# Altium footprint library FullyDigital.PcbLib: 50 footprints (part 4 of 4)
Each footprint in its own frame and in the unit in brackets; x right, y up, seen from the top. Pads: shape width x height; smd on the part's side, far side on the other; paste and mask are expansions set on the pad; w line width, h text height; cw(c..) or ccw(c..) is an arc to the next point about the centre after c.
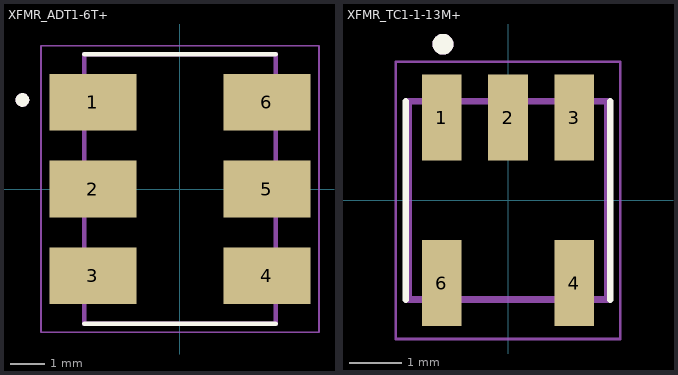
[diagram p3: the footprints below, top view; thin cyan lines are the x and y axes]

## XFMR_ADT1-6T+ [mm] "RF Transformer 50? 1.0 0.03 to 125 MHz"
height 5.23
pads (6):
  rect 2.54x1.65 smd: 1(-2.54,2.54) 2(-2.54,0) 3(-2.54,-2.54) 4(2.54,-2.54) 5(2.54,0) 6(2.54,2.54)
Top Overlay:
  circle w0.2: c-4.6,2.6 r0.1
  lines w0.127: -2.795,-3.935 2.795,-3.935 ; -2.795,3.935 2.795,3.935
Mechanical 13:
  circle w0.2: c-4.6,2.6 r0.1
  lines w0.127: -2.795,-3.935 -2.795,3.935 2.795,3.935 2.795,-3.935 -2.795,-3.935
Mechanical 15:
  lines w0.05: -4.06,-4.185 -4.06,4.185 4.06,4.185 4.06,-4.185 -4.06,-4.185

## XFMR_TC1-1-13M+ [mm]
pads (5):
  rect 0.76x1.65 smd: 1(-1.27,1.59) 2(0,1.59) 3(1.27,1.59) 4(1.27,-1.59) 6(-1.27,-1.59)
Top Overlay:
  circle w0.2: c-1.25,3 r0.1
  lines w0.127: -1.963,-1.905 -1.963,1.905 ; 1.963,-1.905 1.963,1.905
Mechanical 13:
  circle w0.2: c-1.25,3 r0.1
  lines w0.127: -1.905,-1.905 -1.905,1.905 1.905,1.905 1.905,-1.905 -1.905,-1.905
Mechanical 15:
  lines w0.05: -2.155,-2.665 -2.155,2.665 2.155,2.665 2.155,-2.665 -2.155,-2.665